# EAGLE library part DISPLAY1 (library QuantumOptics)
LCD Character Display #1, actually just a line of holes for ribbin cable. All LCD modules are variations on a theme so this applies to most. BEWARE of possible reversal of pins 1-2! Verify on data sheet! Based on http://rocky.digikey.com/WebLib/Varitronix/Web%20Data/MDL(S)-16265.pdf
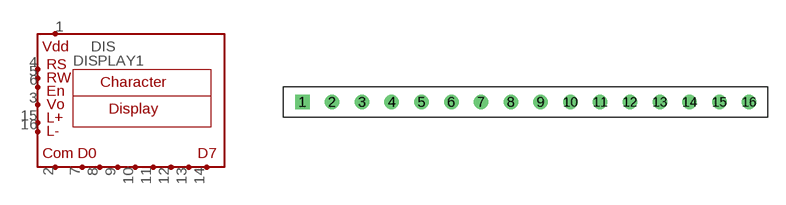
[diagram p99: symbol with the pads of DISPLAY1; footprint DISPLAY1]

Designator prefix DIS

## DISPLAY1  [DISPLAY1]
1  VDD
2  VSS
3  VO  in
4  RS  in
5  RW  in
6  EN  in
7  D0  in
8  D1  in
9  D2  in
10  D3  in
11  D4  in
12  D5  in
13  D6  in
14  D7  in
15  LED+  in
16  LED-  in

## Footprint DISPLAY1 (pad centres in mm)
LCD Character Display #1, actually just a line of holes for ribbin cable. All LCD modules are variations on a theme so this applies to most. Based on http://rocky.digikey.com/WebLib/Varitronix/Web%20Data/MDL(S)-16265.pdf
drill 0.711 square: 1 -20,0
drill 0.711: 2 -17.5,0; 3 -15,0; 4 -12.5,0; 5 -10,0; 6 -7.5,0; 7 -5,0; 8 -2.5,0; 9 0,0; 10 2.5,0; 11 5,0; 12 7.5,0; 13 10,0; 14 12.5,0; 15 15,0; 16 17.5,0